# EAGLE library part MPU-9150 (library mpu9150)
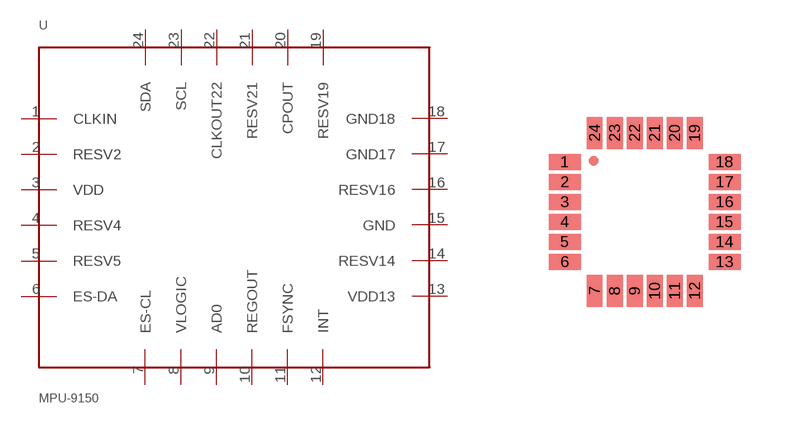
[diagram p0: symbol with the pads of MPU-9150; footprint MPU-9150]

Designator prefix -

## MPU-9150  [MPU-9150]
1  CLKIN
2  RESV2
3  VDD
4  RESV4
5  RESV5
6  ES-DA
7  ES-CL
8  VLOGIC
9  AD0
10  REGOUT
11  FSYNC
12  INT
13  VDD13
14  RESV14
15  GND
16  RESV16
17  GND17
18  GND18
19  RESV19
20  CPOUT
21  RESV21
22  CLKOUT22
23  SCL
24  SDA

## Footprint MPU-9150 (pad centres in mm)
smd 0.8 x 0.4: 1 -2,1.25; 2 -2,0.75; 3 -2,0.25; 4 -2,-0.25; 5 -2,-0.75; 6 -2,-1.25; 13 2,-1.25; 14 2,-0.75; 15 2,-0.25; 16 2,0.25; 17 2,0.75; 18 2,1.25
smd 0.4 x 0.8: 7 -1.25,-1.975; 8 -0.75,-1.975; 9 -0.25,-1.975; 10 0.25,-1.975; 11 0.75,-1.975; 12 1.25,-1.975; 19 1.25,1.975; 20 0.75,1.975; 21 0.25,1.975; 22 -0.25,1.975; 23 -0.75,1.975; 24 -1.25,1.975